# EAGLE library part NCS603 (library TinyNES_Library)
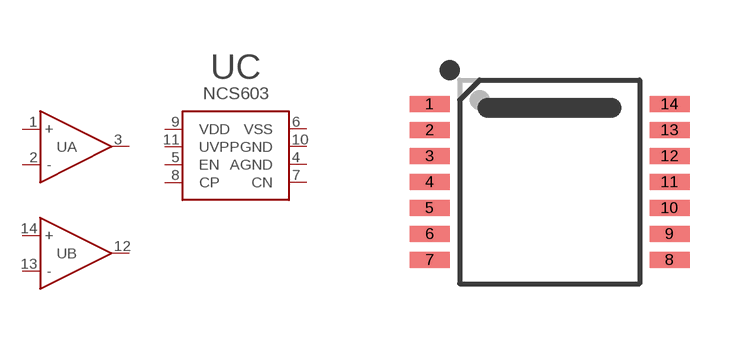
[diagram p17: symbol with the pads of TSSOP-14; footprint TSSOP-14]

Designator prefix U; gates C=NCS603 A=OPAMP B=OPAMP

## NCS603  [TSSOP-14]
1  A:+  in
2  A:-  in
3  A:OUT  out
4  C:AGND
5  C:EN
6  C:VSS
7  C:CN
8  C:CP
9  C:VDD
10  C:PGND
11  C:UVP
12  B:OUT  out
13  B:-  in
14  B:+  in

## Footprint TSSOP-14 (pad centres in mm)
smd 1 x 0.4: 1 -3,1.95; 2 -3,1.3; 3 -3,0.65; 4 -3,0; 5 -3,-0.65; 6 -3,-1.3; 7 -3,-1.95; 8 3,-1.95; 9 3,-1.3; 10 3,-0.65; 11 3,0; 12 3,0.65; 13 3,1.3; 14 3,1.95